# Altium schematic symbol library LT1615ES5-1#PBF.SchLib: 1 symbol
Pins are listed as number, name and electrical type; pins without a type are passive.

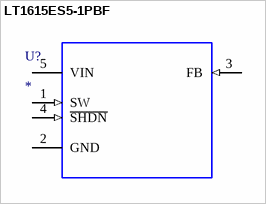
[diagram p0: symbol LT1615ES5-1PBF]

## LT1615ES5-1PBF
designator U?
Micropower Step-Up DC/DC Converters; MP: LT1615ES5-1PBF; MF: {'manufacturer': u'Analog Devices, Inc.'}; Price: None; Availability: Unavailable; Value: *; Package: None
footprint SOT95P280X145-5N
pins: 1 SW (in), 2 GND, 3 FB (in), 4 ~{SHDN} (in), 5 VIN (power)